# EAGLE library part TB-10 (library QuantumOptics)
Terminal Block, 10 pin
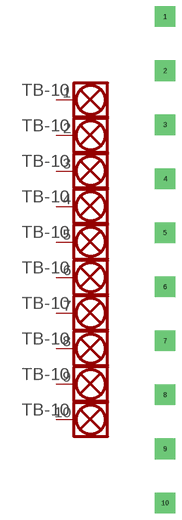
[diagram p6: symbol with the pads of TB-10; footprint TB-10]

Designator prefix TB; gates G$1=TB-SCREW G$2=TB-SCREW G$3=TB-SCREW G$4=TB-SCREW G$5=TB-SCREW G$6=TB-SCREW G$7=TB-SCREW G$8=TB-SCREW G$9=TB-SCREW G$10=TB-SCREW

## TB-10.  [TB-10]
1  G$1:TBPIN
2  G$2:TBPIN
3  G$3:TBPIN
4  G$4:TBPIN
5  G$5:TBPIN
6  G$6:TBPIN
7  G$7:TBPIN
8  G$8:TBPIN
9  G$9:TBPIN
10  G$10:TBPIN

## Footprint TB-10 (pad centres in mm)
Terminal Block, 10 pin, Warning, not to any particular size, just a placeholder!
drill 3.81 square: 1 0,63.5; 2 0,50.8; 3 0,38.1; 4 0,25.4; 5 0,12.7; 6 0,0; 7 0,-12.7; 8 0,-25.4; 9 0,-38.1; 10 0,-50.8